# Altium footprint library power.PcbLib: 8 footprints
Each footprint in its own frame and in the unit in brackets; x right, y up, seen from the top. Pads: shape width x height; smd on the part's side, far side on the other; paste and mask are expansions set on the pad; w line width, h text height; cw(c..) or ccw(c..) is an arc to the next point about the centre after c.
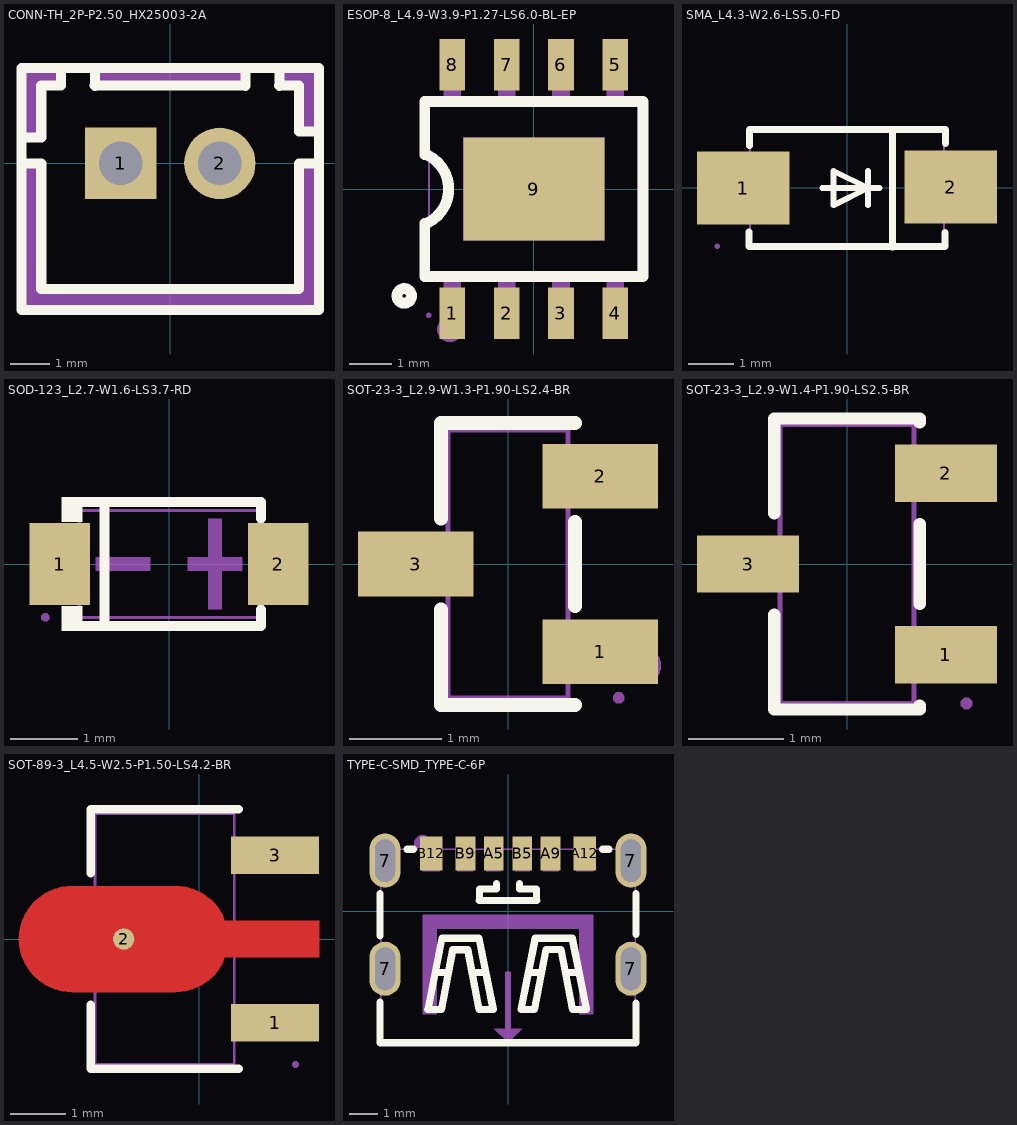
[diagram p0: the footprints below, top view; thin cyan lines are the x and y axes]

## CONN-TH_2P-P2.50_HX25003-2A [mm] "电池接线端子"
pads (2):
  rect 1.8x1.8 hole 1.1 paste+0 mask+0.05: 1(-1.25,0)
  round 1.8 hole 1.1 paste+0 mask+0.05: 2(1.25,0)
Top Overlay:
  lines w0.254: -3.75,-2.416 -3.75,0 -3.25,0 -3.25,-2.416 -3.25,-3.167 3.25,-3.167 3.25,-2.344 3.25,0 3.75,0 3.75,-2.344 ; -3.75,-1.603 -3.75,0.648 -3.25,0.65 -3.25,1.958 -2.75,1.958 -2.75,2.408 ; -1.9,1.95 -1.9,2.4 ; -1.9,1.958 1.9,1.958 ; 1.9,1.95 1.9,2.4 ; 2.75,1.95 2.75,2.399 ; 2.75,1.958 3.25,1.958 3.25,0.8 3.75,0.8 3.75,-1.501 ; -3.75,-3.7 3.75,-3.7 3.75,2.4 -3.75,2.4 -3.75,-3.7
Mechanical 6:
  region: 2.75,1.95 3.242,1.95 3.25,1.958 3.25,0.8 3.75,0.8 3.75,2.4 2.751,2.4 2.75,2.399
  region: -2.75,1.9 -3.241,1.9 -3.25,1.908 -3.25,0.75 -3.75,0.75 -3.75,2.35 -2.751,2.35 -2.75,2.349
  region: 3.25,0 3.75,0 3.75,-3.7 -3.75,-3.7 -3.75,-0.05 -3.25,0 -3.25,-3.167 3.25,-3.167
  region: 1.9,2.4 1.9,1.9 -1.9,1.9 -1.9,2.4
Mechanical 15:
  region: 0.93,0.32 1.57,0.32 1.57,-0.32 0.93,-0.32
  region: -1.57,0.32 -0.93,0.32 -0.93,-0.32 -1.57,-0.32
  region: -3.69,-3.5 -3.69,-3.525 -3.725,-3.56 -3.775,-3.56 -3.81,-3.525 -3.81,-3.5 -3.81,-3.475 -3.775,-3.44 -3.725,-3.44 -3.69,-3.475 -3.69,-3.5
  lines w0.051: -3.75,-3.5 -3.75,2.4 3.75,2.4 3.75,-3.5 -3.75,-3.5

## ESOP-8_L4.9-W3.9-P1.27-LS6.0-BL-EP [mm] "TP4056"
pads (9):
  rect 0.6x1.2 smd paste+0 mask+0.051: 1(-1.905,-2.908) 2(-0.635,-2.908) 3(0.635,-2.908) 4(1.905,-2.908) 5(1.905,2.908) 6(0.635,2.908) 7(-0.635,2.908) 8(-1.905,2.908)
  rect 3.3x2.4 smd paste+0 mask+0.051: 9(0,0)
Top Overlay:
  circle w0.254: c-3.03,-2.5 r0.17
  lines w0.254: -2.55,-0.8 -2.55,-2.05 2.55,-2.05 2.55,2.05 -2.55,2.05 -2.55,0.8 ; -2.5,-0.8 ccw(c-2.875,0) -2.5,0.8
Mechanical 6:
  circle w0.3: c-1.96,-3.28 r0.15
Mechanical 15:
  region: -2.394,-2.95 -2.394,-2.925 -2.429,-2.89 -2.479,-2.89 -2.514,-2.925 -2.514,-2.95 -2.514,-2.975 -2.479,-3.01 -2.429,-3.01 -2.394,-2.975 -2.394,-2.95
  region: -2.105,1.94 -2.105,2.31 -1.705,2.31 -1.705,1.94
  region: -2.105,2.3 -2.105,2.95 -1.705,2.95 -1.705,2.3
  region: -0.835,1.94 -0.835,2.31 -0.435,2.31 -0.435,1.94
  region: -0.835,2.3 -0.835,2.95 -0.435,2.95 -0.435,2.3
  region: 0.435,1.94 0.435,2.31 0.835,2.31 0.835,1.94
  region: 0.435,2.3 0.435,2.95 0.835,2.95 0.835,2.3
  region: 1.705,1.94 1.705,2.31 2.105,2.31 2.105,1.94
  region: 1.705,2.3 1.705,2.95 2.105,2.95 2.105,2.3
  region: -2.105,-2.31 -2.105,-1.94 -1.705,-1.94 -1.705,-2.31
  region: -2.105,-2.95 -2.105,-2.3 -1.705,-2.3 -1.705,-2.95
  region: -0.835,-2.31 -0.835,-1.94 -0.435,-1.94 -0.435,-2.31
  region: -0.835,-2.95 -0.835,-2.3 -0.435,-2.3 -0.435,-2.95
  region: 0.435,-2.31 0.435,-1.94 0.835,-1.94 0.835,-2.31
  region: 0.435,-2.95 0.435,-2.3 0.835,-2.3 0.835,-2.95
  region: 1.705,-2.31 1.705,-1.94 2.105,-1.94 2.105,-2.31
  region: 1.705,-2.95 1.705,-2.3 2.105,-2.3 2.105,-2.95
  region: 1.65,-1.2 -1.65,-1.2 -1.65,1.2 1.65,1.2
  lines w0.051: -2.45,-1.95 2.45,-1.95 2.45,1.95 -2.45,1.95 -2.45,-1.95

## SMA_L4.3-W2.6-LS5.0-FD [mm] "SS34"
pads (2):
  rect 2.046x1.62 smd: 1(-2.304,-0.009) 2(2.304,0.009)
Top Overlay:
  lines w0.127: -0.551,-0.01 0.719,-0.01 ; 0.465,-0.391 0.465,-0.01 ; 0.465,0.371 0.465,-0.01 ; 0.465,-0.01 -0.297,-0.391 -0.297,-0.01 -0.297,0.371 0.465,-0.01
  lines w0.152: -2.17,-0.979 -2.17,-1.309 2.177,-1.309 2.177,-0.998 ; -2.16,0.93 -2.16,1.288 2.186,1.288 2.186,0.977 ; 1.007,-1.321 1.007,1.276
Mechanical 6:
  region: -2.142,0.644 -2.142,-0.644 -1.949,-0.644 -1.949,0.644
  region: -2.432,0.097 -2.432,-0.097 -1.659,-0.097 -1.659,0.097
  region: 2.432,0.097 2.432,-0.097 1.659,-0.097 1.659,0.097
Mechanical 15:
  region: -2.819,-1.3 -2.819,-1.325 -2.854,-1.36 -2.904,-1.36 -2.939,-1.325 -2.939,-1.3 -2.939,-1.275 -2.904,-1.24 -2.854,-1.24 -2.819,-1.275 -2.819,-1.3
  region: 2.5,0.734 2.5,-0.716 1.35,-0.716 1.35,0.734
  region: -2.5,-0.734 -2.5,0.716 -1.35,0.716 -1.35,-0.734
  lines w0.051: -2.15,-1.3 -2.15,1.3 2.15,1.3 2.15,-1.3 -2.15,-1.3

## SOD-123_L2.7-W1.6-LS3.7-RD [mm] "1N5819"
pads (2):
  rect 0.91x1.22 smd: 1(-1.635,0) 2(1.635,0)
Top Overlay:
  region: -1.3,-1.002 -1.3,-0.632 -1.605,-0.632 -1.605,-1.002
  region: -1.3,1.002 -1.3,0.632 -1.605,0.632 -1.605,1.002
  lines w0.152: -1.376,-0.926 1.376,-0.926 1.376,-0.683 ; -1.376,0.926 1.376,0.926 1.376,0.683 ; -0.967,-0.926 -0.967,0.926
Mechanical 6:
  region: 0.79,0.68 0.79,-0.68 0.586,-0.68 0.586,0.68
  region: 1.096,0.102 1.096,-0.102 0.28,-0.102 0.28,0.102
  region: -1.096,0.102 -1.096,-0.102 -0.28,-0.102 -0.28,0.102
Mechanical 15:
  region: -1.81,-0.3 -1.33,-0.3 -1.33,0.3 -1.81,0.3
  region: 1.81,0.3 1.33,0.3 1.33,-0.3 1.81,-0.3
  region: 1.595,0.3 1.845,0.3 1.845,-0.3 1.595,-0.3
  region: -1.845,0.3 -1.595,0.3 -1.595,-0.3 -1.845,-0.3
  region: -1.79,-0.8 -1.79,-0.825 -1.825,-0.86 -1.875,-0.86 -1.91,-0.825 -1.91,-0.8 -1.91,-0.775 -1.875,-0.74 -1.825,-0.74 -1.79,-0.775 -1.79,-0.8
  lines w0.051: -1.345,-0.8 1.345,-0.8 1.345,0.8 -1.345,0.8 -1.345,-0.8

## SOT-23-3_L2.9-W1.3-P1.90-LS2.4-BR [mm]
pads (3):
  rect 1.25x0.7 smd: 1(1,-0.95) 2(1,0.95) 3(-1,0)
Top Overlay:
  lines w0.152: -0.726,-0.495 -0.726,-1.526 0.726,-1.526 ; -0.726,0.495 -0.726,1.526 0.726,1.526 ; 0.726,-0.455 0.726,0.455
Mechanical 6:
  circle w0.2: c1.46,-1.1 r0.1
Mechanical 15:
  region: -1.2,-0.215 -1.2,0.215 -0.9,0.215 -0.9,-0.215
  region: -0.91,-0.215 -0.91,0.215 -0.64,0.215 -0.64,-0.215
  region: 0.9,-1.165 0.9,-0.735 1.2,-0.735 1.2,-1.165
  region: 0.64,-1.165 0.64,-0.735 0.91,-0.735 0.91,-1.165
  region: 0.9,0.735 0.9,1.165 1.2,1.165 1.2,0.735
  region: 0.64,0.735 0.64,1.165 0.91,1.165 0.91,0.735
  region: 1.26,-1.45 1.26,-1.475 1.225,-1.51 1.175,-1.51 1.14,-1.475 1.14,-1.45 1.14,-1.425 1.175,-1.39 1.225,-1.39 1.26,-1.425 1.26,-1.45
  lines w0.051: -0.65,-1.45 0.65,-1.45 0.65,1.45 -0.65,1.45 -0.65,-1.45

## SOT-23-3_L2.9-W1.4-P1.90-LS2.5-BR [mm] "HL6042 MMBT3904-E"
pads (3):
  rect 1.07x0.6 smd: 1(1.035,-0.95) 2(1.035,0.95) 3(-1.035,0)
Top Overlay:
  lines w0.127: -0.762,-0.531 -0.762,-1.524 0.762,-1.524 0.762,-1.481 ; -0.762,0.531 -0.762,1.524 0.127,1.524 ; -0.127,1.524 0.762,1.524 0.762,1.481 ; 0.762,-0.419 0.762,0.419
Mechanical 6:
  circle w0.2: c1.044,-0.978 r0.1
Mechanical 15:
  region: 1.31,-1.46 1.31,-1.485 1.275,-1.52 1.225,-1.52 1.19,-1.485 1.19,-1.46 1.19,-1.435 1.225,-1.4 1.275,-1.4 1.31,-1.435 1.31,-1.46
  region: 0.69,-1.167 0.69,-0.732 0.88,-0.732 0.88,-1.167
  region: 0.87,-1.167 0.87,-0.732 1.25,-0.732 1.25,-1.167
  region: 0.69,0.732 0.69,1.167 0.88,1.167 0.88,0.732
  region: 0.87,0.732 0.87,1.167 1.25,1.167 1.25,0.732
  region: -0.88,-0.218 -0.88,0.218 -0.69,0.218 -0.69,-0.218
  region: -1.25,-0.218 -1.25,0.218 -0.87,0.218 -0.87,-0.218
  lines w0.051: -0.7,-1.46 -0.7,1.46 0.7,1.46 0.7,-1.46 -0.7,-1.46

## SOT-89-3_L4.5-W2.5-P1.50-LS4.2-BR [mm] "AMS1117"
pads (3):
  rect 1.575x0.672 smd: 1(1.356,-1.5) 3(1.356,1.5)
  round 0.38 smd: 2(-1.356,0)
Top Layer:
  region: -2.283,0.95 -0.429,0.95 -0.384,0.949 -0.34,0.946 -0.296,0.94 -0.252,0.933 -0.208,0.924 -0.165,0.912 -0.123,0.899 -0.081,0.884 -0.04,0.866 0,0.847 0.04,0.826 0.078,0.803 0.115,0.779 0.151,0.752 0.185,0.724 0.219,0.695 0.251,0.664 0.281,0.631 0.31,0.597 0.337,0.562 0.362,0.525 0.386,0.488 0.408,0.449 0.428,0.409 0.447,0.33 2.144,0.33 2.144,-0.33 0.447,-0.33 0.428,-0.409 0.408,-0.449 0.386,-0.488 0.362,-0.526 0.337,-0.562 0.31,-0.597 0.281,-0.631 0.251,-0.664 0.219,-0.695 0.185,-0.725 0.151,-0.753 0.115,-0.779 0.078,-0.804 0.04,-0.827 0,-0.848 -0.04,-0.867 -0.081,-0.884 -0.123,-0.899 -0.165,-0.913 -0.208,-0.924 -0.252,-0.934 -0.296,-0.941 -0.34,-0.946 -0.384,-0.949 -0.429,-0.95 -2.283,-0.95 -2.328,-0.949 -2.372,-0.946 -2.416,-0.941 -2.46,-0.934 -2.504,-0.924 -2.547,-0.913 -2.589,-0.899 -2.631,-0.884 -2.672,-0.867 -2.713,-0.848 -2.752,-0.827 -2.79,-0.804 -2.827,-0.779 -2.863,-0.753 -2.898,-0.725 -2.931,-0.695 -2.963,-0.664 -2.993,-0.631 -3.022,-0.597 -3.049,-0.562 -3.075,-0.526 -3.098,-0.488 -3.12,-0.449 -3.141,-0.409 -3.159,-0.369 -3.175,-0.327 -3.189,-0.285 -3.202,-0.242 -3.212,-0.199 -3.22,-0.155 -3.227,-0.111 -3.231,-0.067 -3.233,-0.022 -3.233,0.022 -3.231,0.067 -3.227,0.111 -3.22,0.155 -3.212,0.199 -3.202,0.242 -3.189,0.285 -3.175,0.327 -3.159,0.369 -3.141,0.409 -3.12,0.449 -3.098,0.488 -3.075,0.525 -3.049,0.562 -3.022,0.597 -2.993,0.631 -2.963,0.664 -2.931,0.695 -2.898,0.724 -2.863,0.752 -2.827,0.779 -2.79,0.803 -2.752,0.826 -2.713,0.847 -2.672,0.866 -2.631,0.884 -2.589,0.899 -2.547,0.912 -2.504,0.924 -2.46,0.933 -2.416,0.94 -2.372,0.946 -2.328,0.949
Top Overlay:
  lines w0.152: -1.95,-1.177 -1.95,-2.326 0.702,-2.326 ; -1.95,1.177 -1.95,2.326 0.702,2.326
Mechanical 6:
  circle w0.3: c1.715,-1.5 r0.15
Mechanical 15:
  region: 1.784,-2.25 1.784,-2.275 1.749,-2.31 1.699,-2.31 1.664,-2.275 1.664,-2.25 1.664,-2.225 1.699,-2.19 1.749,-2.19 1.784,-2.225 1.784,-2.25
  region: 0.439,-0.26 1.724,-0.26 1.724,0.26 0.439,0.26 -0.136,0.863 -2,0.863 -2.471,0.288 -2.471,-0.287 -2,-0.862 -0.136,-0.862
  region: 0.624,-1.25 1.724,-1.25 1.724,-1.75 0.624,-1.75
  region: 0.624,1.75 1.724,1.75 1.724,1.25 0.624,1.25
  lines w0.051: -1.874,-2.25 -1.874,2.25 0.626,2.25 0.626,-2.25 -1.874,-2.25

## TYPE-C-SMD_TYPE-C-6P [mm]
pads (10):
  oval 1.1x1.9 hole 0.7 slot 1.5 at 90 deg: 7(-4.32,-2.025) 7(-4.32,1.775) 7(4.32,-2.025) 7(4.32,1.775)
  rect 0.7x1.2 smd paste-100 mask+0.051: A5(-0.5,2.025) A9(1.5,2.025) B5(0.5,2.025) B9(-1.5,2.025)
  rect 0.8x1.2 smd paste-100 mask+0.051: A12(2.7,2.025) B12(-2.7,2.025)
Top Overlay:
  lines w0.25: -4.501,-3.226 -4.501,-3.203 -4.501,-4.626 4.501,-4.626 4.501,-3.226 ; -4.5,-0.867 -4.5,0.575 -4.5,0.617 ; -3.541,2.175 -3.329,2.175 ; -1.01,0.375 1.01,0.375 ; -1,0.375 -1,0.775 -0.4,0.775 -0.4,0.975 ; 0.4,0.975 0.4,0.775 1,0.775 1,0.375 ; 3.329,2.175 3.541,2.175 ; 4.5,-0.825 4.5,0.625
  lines w0.254: -2.518,-2.158 -2.119,-2.158 ; -1.219,-2.157 -0.819,-2.157 ; 0.759,-2.153 1.158,-2.153 ; 2.058,-2.152 2.458,-2.152 ; -2.818,-3.458 -2.343,-3.458 -1.941,-1.358 -1.413,-1.358 -1.014,-3.458 -0.519,-3.458 -1.019,-0.956 -2.32,-0.956 -2.818,-3.458 ; 0.459,-3.453 0.934,-3.453 1.335,-1.353 1.864,-1.353 2.263,-3.453 2.758,-3.453 2.257,-0.951 0.957,-0.951 0.459,-3.453
Top Paste:
  drawing of 10 lines, arcs and shapes, not listed
Mechanical 6:
  circle w0.3: c-3,2.375 r0.15
  region: 0,-4.125 -0.1,-4.125 -0.1,-2.125 0.1,-2.125 0.1,-4.125
  region: -0.5,-4.125 0.5,-4.125 0,-4.625
  region: -2.5,-0.125 2.5,-0.125 2.5,-0.625 -2.5,-0.625
  region: 3,-3.625 3,-0.125 2.5,-0.125 2.5,-3.625
  region: -3,-3.625 -3,-0.125 -2.5,-0.125 -2.5,-3.625
Mechanical 15:
  region: -3,2.15 -2.4,2.15 -2.4,1.4 -3,1.4
  region: 2.4,2.15 3,2.15 3,1.4 2.4,1.4
  region: -1.78,2.15 -1.22,2.15 -1.22,1.4 -1.78,1.4
  region: 1.22,2.15 1.78,2.15 1.78,1.4 1.22,1.4
  region: 0.24,2.15 0.76,2.15 0.76,1.4 0.24,1.4
  region: -0.76,2.15 -0.24,2.15 -0.24,1.4 -0.76,1.4
  region: -4.47,2.175 -4.17,2.175 -4.17,1.375 -4.47,1.375
  region: -4.47,-1.625 -4.17,-1.625 -4.17,-2.425 -4.47,-2.425
  region: 4.17,-1.625 4.47,-1.625 4.47,-2.425 4.17,-2.425
  region: 4.17,2.175 4.47,2.175 4.47,1.375 4.17,1.375
  region: 4.53,-4.625 4.53,-4.65 4.495,-4.685 4.445,-4.685 4.41,-4.65 4.41,-4.625 4.41,-4.6 4.445,-4.565 4.495,-4.565 4.53,-4.6 4.53,-4.625
  lines w0.051: -4.47,-4.625 4.47,-4.625 4.47,2.175 -4.47,2.175 -4.47,-4.625